# EAGLE library part F16V8C (library f16v8c)
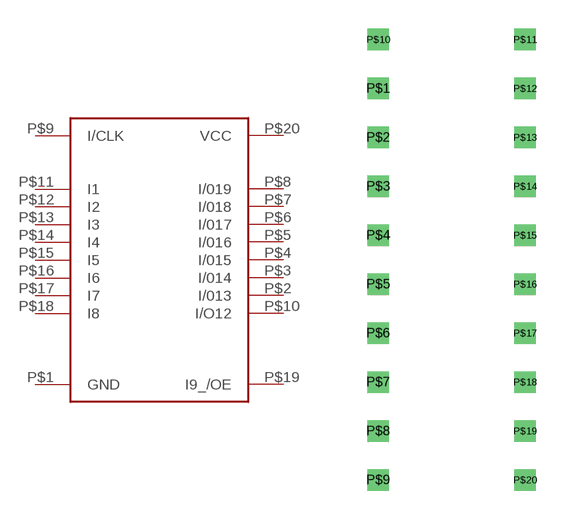
[diagram p0: symbol with the pads of F16V8C; footprint F16V8C]

Designator prefix -

## F16V8C  [F16V8C]
P$1  GND
P$2  I/013
P$3  I/014
P$4  I/015
P$5  I/016
P$6  I/017
P$7  I/018
P$8  I/019
P$9  I/CLK
P$10  I/O12
P$11  I1
P$12  I2
P$13  I3
P$14  I4
P$15  I5
P$16  I6
P$17  I7
P$18  I8
P$19  I9_/OE
P$20  VCC

## Footprint F16V8C (pad centres in mm)
drill 0.6 square: P$1 -13.97,7.62; P$2 -13.97,5.08; P$3 -13.97,2.54; P$4 -13.97,0; P$5 -13.97,-2.54; P$6 -13.97,-5.08; P$7 -13.97,-7.62; P$8 -13.97,-10.16; P$9 -13.97,-12.7; P$10 -13.97,10.16; P$11 -6.35,10.16; P$12 -6.35,7.62; P$13 -6.35,5.08; P$14 -6.35,2.54; P$15 -6.35,0; P$16 -6.35,-2.54; P$17 -6.35,-5.08; P$18 -6.35,-7.62; P$19 -6.35,-10.16; P$20 -6.35,-12.7